# Altium schematic symbol library SCH - OPAMP - TI OPA188 DBV.SchLib: 1 symbol
Pins are listed as number, name and electrical type; pins without a type are passive.

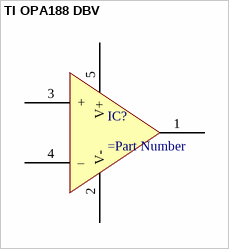
[diagram p0: symbol TI OPA188 DBV]

## TI OPA188 DBV
designator IC?
pins: 1 OUT, 2 V-, 3 +, 4 –, 5 V+